# EAGLE library part RFM22B_23B (library template)
RFM22B/23B ISM TRANSCEIVER MODULE V1.0
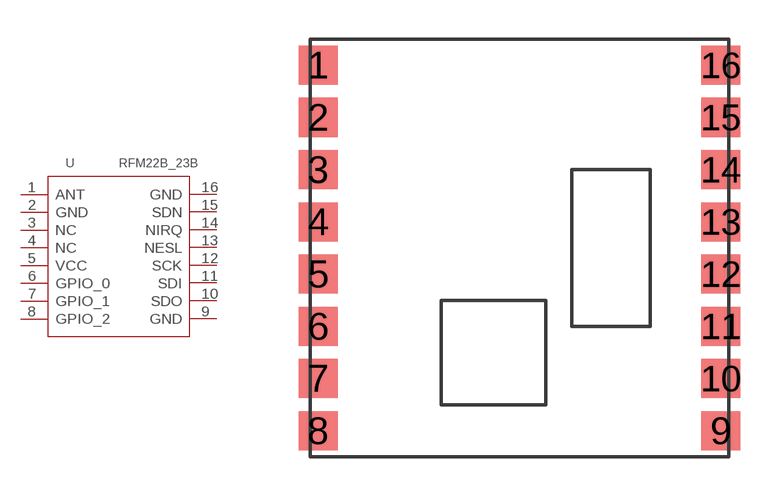
[diagram p31: symbol with the pads of 16P-16X16X1H; footprint 16P-16X16X1H]

Designator prefix U

## RFM22B_23B  [16P-16X16X1H]
1  ANT
2  GND
3  NC
4  NC
5  VCC
6  GPIO_0
7  GPIO_1
8  GPIO_2
9  GND
10  SDO
11  SDI
12  SCK
13  NESL
14  NIRQ
15  SDN
16  GND

## Footprint 16P-16X16X1H (pad centres in mm)
smd 1.5 x 1.5: 1 -7.7,7; 2 -7.7,5; 3 -7.7,3; 4 -7.7,1; 5 -7.7,-1; 6 -7.7,-3; 7 -7.7,-5; 8 -7.7,-7; 9 7.7,-7; 10 7.7,-5; 11 7.7,-3; 12 7.7,-1; 13 7.7,1; 14 7.7,3; 15 7.7,5; 16 7.7,7